# Altium schematic symbol library Other.SchLib: 4 symbols
Pins are listed as number, name and electrical type; pins without a type are passive.

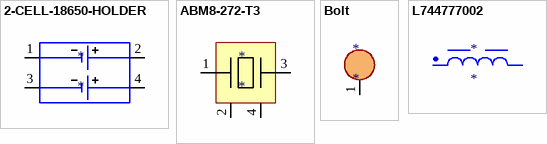
[diagram p0: symbols 2-CELL-18650-HOLDER to L744777002]

## 2-CELL-18650-HOLDER
designator *
pins: 1, 2, 3, 4

## ABM8-272-T3
designator *
pins: 1 6, 2 7, 3 8, 4 9

## Bolt
designator *
pins: 1 GND

## L744777002
designator *
pins: 1 29, 2 28